# Altium integrated library MICROCHIP_Mixed_Signal_Digital_Potentiometers.IntLib: 2 symbols
Pins are listed as number, name and electrical type; pins without a type are passive.

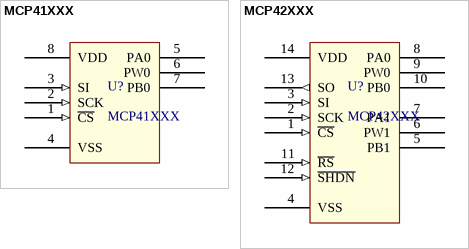
[diagram p0: symbols MCP41XXX to MCP42XXX]

## MCP41XXX
designator U?
Single Digital Potentiometer with SPI™ Interface; ComponentLink1Description: Datasheet; ComponentLink1URL: http://ww1.microchip.com/downloads/en/DeviceDoc/11195c.pdf
footprint SOIC8P127_490X599X175L62X42N - duplicate (Small Outline IC (SOIC), 1.27 mm pitch; 8 pin, 4.90 mm L X 3.85 mm W X 1.75 mm H body)
footprint DIP794W46P254L978H368Q8 (DIP, 7.94 mm lead span, 2.54 mm pitch; 8 pin, 9.78 mm L X 6.60 mm W X 3.68 mm H body)
pins: 1 ~{CS} (in) "Chip Select", 2 SCK (in) "Serial Clock", 3 SI (in) "Serial Data Input", 4 VSS (power) "Ground", 5 PA0 "Terminal A Connection For Pot 0", 6 PW0 "Wiper Connection For Pot 0", 7 PB0 "Terminal B Connection For Pot 0", 8 VDD (power) "Power"

## MCP42XXX
designator U?
Dual Digital Potentiometer with SPI™ Interface; ComponentLink1Description: Datasheet; ComponentLink1URL: http://ww1.microchip.com/downloads/en/DeviceDoc/11195c.pdf
footprint DIP794W46P254L1930H432Q14 (DIP, 7.94 mm lead span, 2.54 mm pitch; 14 pin, 19.30 mm L X 6.60 mm W X 4.32 mm H body)
footprint SOIC14P127_868X599X175L84X43N (Small Outline IC (SOIC), 1.27 mm pitch; 14 pin, 8.685 mm L X 3.90 mm W X 1.75 mm H body)
footprint SOP14P65_500X637X110L60X24N (Small Outline Pkg (SOP), 0.65 mm pitch; 14 pin, 5.00 mm L X 4.40 mm W X 1.10 mm H body)
pins: 1 ~{CS} (in) "Chip Select", 2 SCK (in) "Serial Clock", 3 SI (in) "Serial Data Input", 4 VSS (power) "Ground", 5 PB1 "Terminal B Connection For Pot 1", 6 PW1 "Wiper Connection For Pot 1", 7 PA1 "Terminal A Connection For Pot 1", 8 PA0 "Terminal A Connection For Pot 0", 9 PW0 "Wiper Connection For Pot 0", 10 PB0 "Terminal B Connection For Pot 0", 11 ~{RS} (in) "Reset Input", 12 ~{SHDN} (in) "Shutdown Input", 13 SO (out) "Data Out for Daisy-Chaining", 14 VDD (power) "Power"